# Altium footprint library SM_PSOF8.PcbLib: 1 footprints
Each footprint in its own frame and in the unit in brackets; x right, y up, seen from the top. Pads: shape width x height; smd on the part's side, far side on the other; paste and mask are expansions set on the pad; w line width, h text height; cw(c..) or ccw(c..) is an arc to the next point about the centre after c.
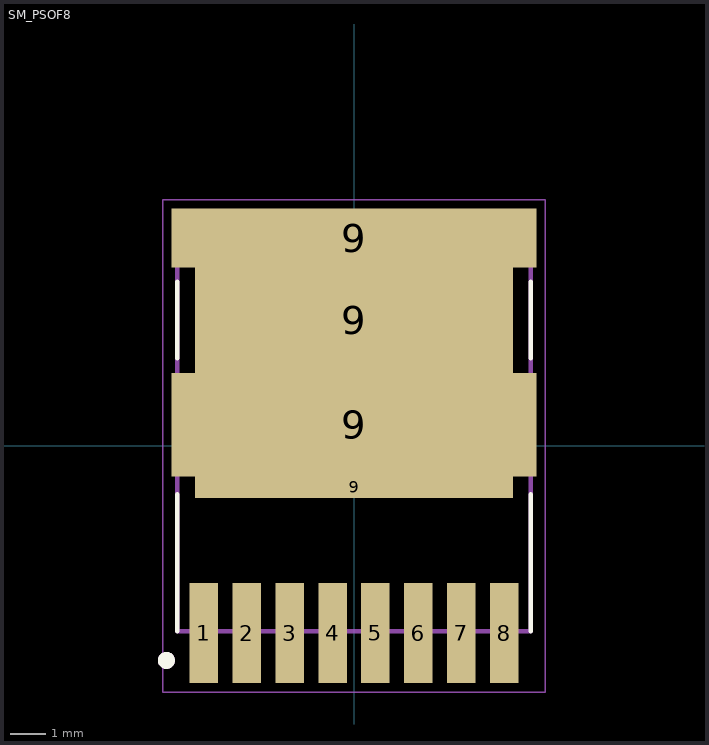
[diagram p0: the footprint, top view; thin cyan lines are the x and y axes]

## SM_PSOF8 [mm] "MOSFET"
height 2.4
pads (12):
  rect 0.8x2.8 smd: 1(-4.2,-5.24) 2(-3,-5.24) 3(-1.8,-5.24) 4(-0.6,-5.24) 5(0.6,-5.24) 6(1.8,-5.24) 7(3,-5.24) 8(4.2,-5.24)
  rect 8.9x0.6 smd: 9(0,-1.16)
  rect 10.2x2.9 smd: 9(0,0.59)
  rect 8.9x2.95 smd: 9(0,3.515)
  rect 10.2x1.65 smd: 9(0,5.815)
Top Overlay:
  circle w0.24: c-5.25,-6 r0.12
  lines w0.127: -4.95,-5.19 -4.95,-1.35 ; -4.95,2.45 -4.95,4.6 ; 4.95,-5.19 4.95,-1.35 ; 4.95,2.45 4.95,4.6
Top Paste:
  region: -2.811,5.15 2.81,5.15 2.81,0.03 -2.811,0.03
Mechanical 4:
  circle w0.24: c-5.25,-6 r0.12
  circle w0.24: c-5.25,-6 r0.12
  lines w0.127: -4.95,-5.19 -4.95,5.19 ; -4.95,-5.19 4.95,-5.19 ; -4.95,-5.19 -4.95,5.19 ; -4.95,-5.19 4.95,-5.19 ; -4.95,5.19 4.95,5.19 ; -4.95,5.19 4.95,5.19 ; 4.95,-5.19 4.95,5.19 ; 4.95,-5.19 4.95,5.19
Mechanical 16:
  lines w0.05: -5.35,-6.89 -5.35,6.89 5.35,6.89 5.35,-6.89 -5.35,-6.89
3D body: height 2.4, standoff 0, extent -4.699,-5.08 4.699,5.461
3D body: height 0.6, standoff 0, extent -4.953,-5.969 4.953,6.477